# EAGLE library part SM-LP-5001 (library HalfBakedCircuits)
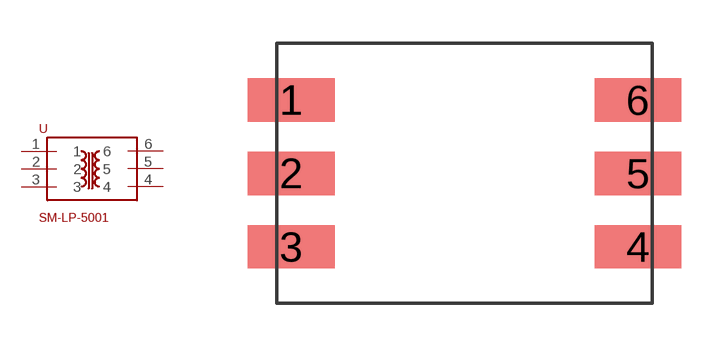
[diagram p0: symbol with the pads of SM-LP-5001; footprint SM-LP-5001]

Designator prefix -

## SM-LP-5001  [SM-LP-5001]
1  1
2  2
3  3
4  4
5  5
6  6

## Footprint SM-LP-5001 (pad centres in mm)
smd 3 x 1.5: 1 -6,2.54; 2 -6,0; 3 -6,-2.54; 4 6,-2.54; 5 6,0; 6 6,2.54